# Altium schematic symbol library Diodes.SchLib: 14 symbols
Pins are listed as number, name and electrical type; pins without a type are passive.

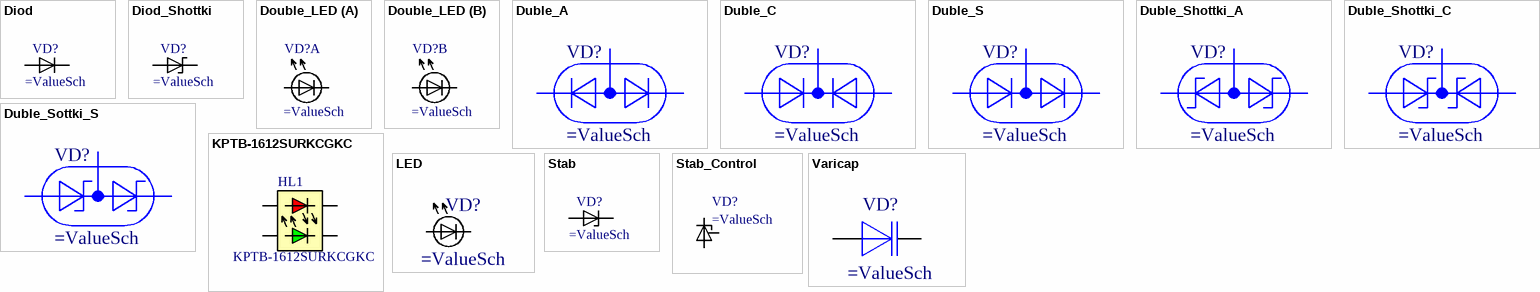
[diagram p0: symbols Diod to Varicap]

## Diod
designator VD?
Diod
pins: A, K

## Diod_Shottki
designator VD?
Диод Шоттки
pins: A, K
1 alternate drawing of the same symbol

## Double_LED
designator VD?
Сборка из двух светодиодов; Marking: *
part A pins: A1, K1
part B pins: A2, K2
1 alternate drawing of the same symbol

## Duble_A
designator VD?
Диодная сборка 2 диода объединённые анодами
pins: A, K1, K2

## Duble_C
designator VD?
Диодная сборка 2 диода объединённые катодами
pins: A1, A2, K

## Duble_S
designator VD?
Диодная сборка 2 диода объединённые последовательно
pins: A1, K1A2, K2

## Duble_Shottki_A
designator VD?
Сборка диодов Шоттки 2 диода объединённые анодами
pins: A, K1, K2
1 alternate drawing of the same symbol

## Duble_Shottki_C
designator VD?
Сборка диодов Шоттки 2 диода объединённые катодами
pins: A1, A2, K
1 alternate drawing of the same symbol

## Duble_Sottki_S
designator VD?
Сборка диодов Шоттки 2 диода объединённые последовательно
pins: A1, K1A2, K2
1 alternate drawing of the same symbol

## KPTB-1612SURKCGKC
designator HL1, comment PartNumber: KPTB-1612SURKCGKC  (hidden comment: LED)
footprint KPTB-1612SURKCGKC
pins: 1, 2, 3, 4

## LED
designator VD?
Светодиод; Marking: *
pins: A, K
1 alternate drawing of the same symbol

## Stab
designator VD?
Стабилитрон
pins: A, K

## Stab_Control
designator VD?
Управляемый стабилитрон
pins: A, K, R

## Varicap
designator VD?
Варикап
pins: A, K